# EAGLE library part RAMBANK (library ram)
HM4864 RAM Bank
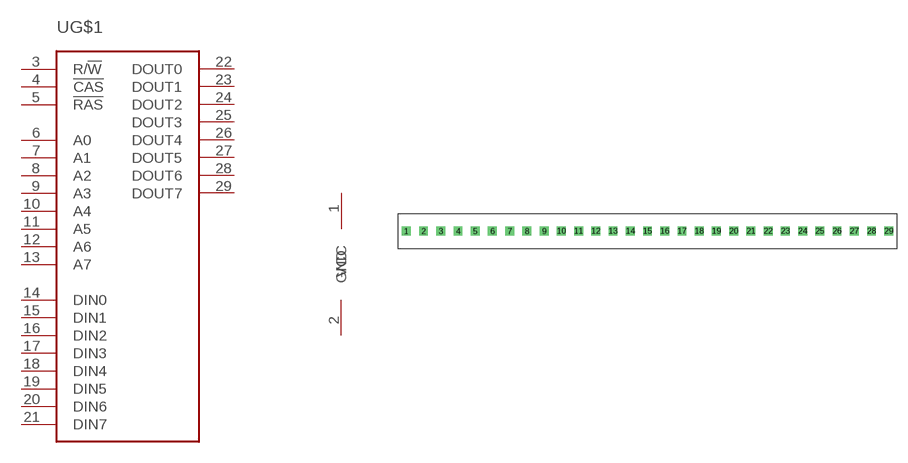
[diagram p0: symbol with the pads of SIP29; footprint SIP29]

Designator prefix -; gates G$1=RAMBANK G$2=PWR

## RAMBANK  [SIP29]
1  G$2:VCC  pwr
2  G$2:GND  pwr
3  G$1:R/!W!  in
4  G$1:!CAS!  in
5  G$1:!RAS!  in
6  G$1:A0  in
7  G$1:A1  in
8  G$1:A2  in
9  G$1:A3  in
10  G$1:A4  in
11  G$1:A5  in
12  G$1:A6  in
13  G$1:A7  in
14  G$1:DIN0  in
15  G$1:DIN1  in
16  G$1:DIN2  in
17  G$1:DIN3  in
18  G$1:DIN4  in
19  G$1:DIN5  in
20  G$1:DIN6  in
21  G$1:DIN7  in
22  G$1:DOUT0  out
23  G$1:DOUT1  out
24  G$1:DOUT2  out
25  G$1:DOUT3  out
26  G$1:DOUT4  out
27  G$1:DOUT5  out
28  G$1:DOUT6  out
29  G$1:DOUT7  out

## Footprint SIP29 (pad centres in mm)
drill 0.8 square: 1 -35.56,0; 2 -33.02,0; 3 -30.48,0; 4 -27.94,0; 5 -25.4,0; 6 -22.86,0; 7 -20.32,0; 8 -17.78,0; 9 -15.24,0; 10 -12.7,0; 11 -10.16,0; 12 -7.62,0; 13 -5.08,0; 14 -2.54,0; 15 0,0; 16 2.54,0; 17 5.08,0; 18 7.62,0; 19 10.16,0; 20 12.7,0; 21 15.24,0; 22 17.78,0; 23 20.32,0; 24 22.86,0; 25 25.4,0; 26 27.94,0; 27 30.48,0; 28 33.02,0; 29 35.56,0